# EAGLE library part AD7676 (library analog-devices-3)
16-Bit, +-1 LSB INL, 500 kSPS, Differential ADC Source: http://www.analog.com/static/imported-files/data_sheets/AD7676.pdf
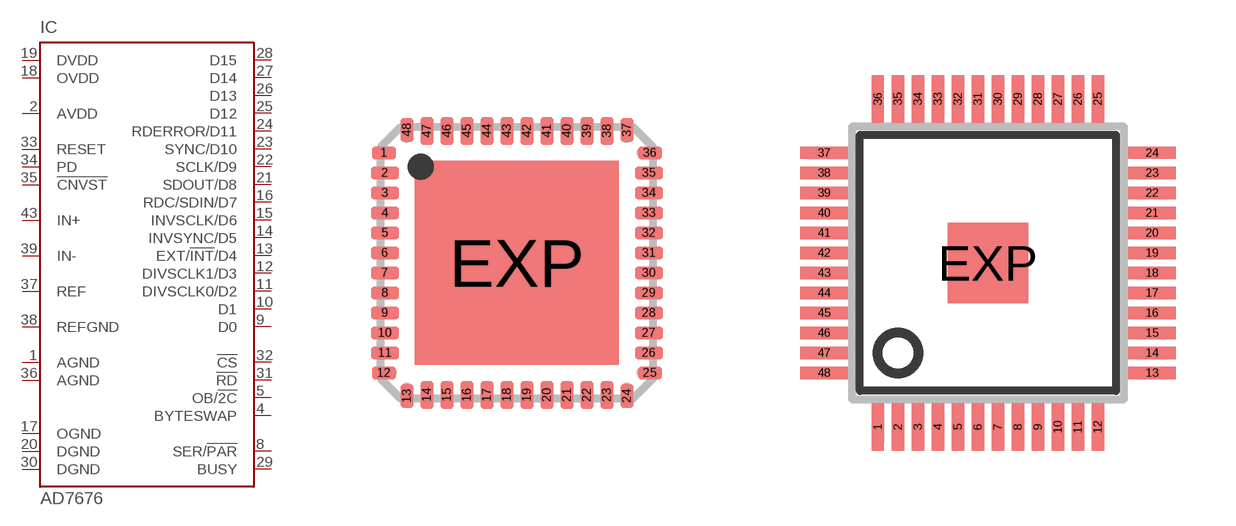
[diagram p93: symbol with the pads of LFCSP48; footprints LFCSP48, QFP-7X7-48]

Designator prefix IC

## AD7676CP  [LFCSP48]
1  AGND  in
2  AVDD  in
4  BYTESWAP  in
5  OB/!2C  in
8  SER/!PAR  in
9  D0  out
10  D1  out
11  DIVSCLK0/D2
12  DIVSCLK1/D3
13  EXT/!INT!/D4
14  INVSYNC/D5
15  INVSCLK/D6
16  RDC/SDIN/D7
17  OGND  in
18  OVDD  in
19  DVDD  in
20  DGND  in
21  SDOUT/D8  out
22  SCLK/D9
23  SYNC/D10  out
24  RDERROR/D11  out
25  D12  out
26  D13  out
27  D14  out
28  D15  out
29  BUSY  in
30  DGND  in
31  !RD  in
32  !CS  in
33  RESET  in
34  PD  in
35  !CNVST  in
36  AGND  in
37  REF  in
38  REFGND  in
39  IN-  in
43  IN+  in

## AD7676ST  [QFP-7X7-48]
Pads as for LFCSP48

## Footprint LFCSP48 (pad centres in mm)
Lead Frame Chip Scale Package LFCSP CP-48 COMPLIANT TO JEDEC STANDARDS MO-220-VKKD-2 Source: http://www.analog.com/UploadedFiles/Data_Sheets/39780344872292AD7651_0.pdf
smd 0.6 x 0.32: 1 -3.325,2.75; 12 -3.325,-2.75; 25 3.325,-2.75; 36 3.325,2.75
smd 0.7 x 0.32: 2 -3.3,2.25; 3 -3.3,1.75; 4 -3.3,1.25; 5 -3.3,0.75; 6 -3.3,0.25; 7 -3.3,-0.25; 8 -3.3,-0.75; 9 -3.3,-1.25; 10 -3.3,-1.75; 11 -3.3,-2.25; 26 3.3,-2.25; 27 3.3,-1.75; 28 3.3,-1.25; 29 3.3,-0.75; 30 3.3,-0.25; 31 3.3,0.25; 32 3.3,0.75; 33 3.3,1.25; 34 3.3,1.75; 35 3.3,2.25
smd 0.32 x 0.6: 13 -2.75,-3.325; 24 2.75,-3.325; 37 2.75,3.325; 48 -2.75,3.325
smd 0.32 x 0.7: 14 -2.25,-3.3; 15 -1.75,-3.3; 16 -1.25,-3.3; 17 -0.75,-3.3; 18 -0.25,-3.3; 19 0.25,-3.3; 20 0.75,-3.3; 21 1.25,-3.3; 22 1.75,-3.3; 23 2.25,-3.3; 38 2.25,3.3; 39 1.75,3.3; 40 1.25,3.3; 41 0.75,3.3; 42 0.25,3.3; 43 -0.25,3.3; 44 -0.75,3.3; 45 -1.25,3.3; 46 -1.75,3.3; 47 -2.25,3.3
smd 5.1 x 5.1: EXP 0,0

## Footprint QFP-7X7-48 (pad centres in mm)
TQFP48 7x7 Thin Plastic Quad Flat Package, Exposed Pad, TQFP/EP Source: www.analog.com/UploadedFiles/Data_Sheets/33830397585263AD9859_0.pdf
smd 0.3 x 1.2: 1 -2.75,-4.1; 2 -2.25,-4.1; 3 -1.75,-4.1; 4 -1.25,-4.1; 5 -0.75,-4.1; 6 -0.25,-4.1; 7 0.25,-4.1; 8 0.75,-4.1; 9 1.25,-4.1; 10 1.75,-4.1; 11 2.25,-4.1; 12 2.75,-4.1; 25 2.75,4.1; 26 2.25,4.1; 27 1.75,4.1; 28 1.25,4.1; 29 0.75,4.1; 30 0.25,4.1; 31 -0.25,4.1; 32 -0.75,4.1; 33 -1.25,4.1; 34 -1.75,4.1; 35 -2.25,4.1; 36 -2.75,4.1
smd 1.2 x 0.3: 13 4.1,-2.75; 14 4.1,-2.25; 15 4.1,-1.75; 16 4.1,-1.25; 17 4.1,-0.75; 18 4.1,-0.25; 19 4.1,0.25; 20 4.1,0.75; 21 4.1,1.25; 22 4.1,1.75; 23 4.1,2.25; 24 4.1,2.75; 37 -4.1,2.75; 38 -4.1,2.25; 39 -4.1,1.75; 40 -4.1,1.25; 41 -4.1,0.75; 42 -4.1,0.25; 43 -4.1,-0.25; 44 -4.1,-0.75; 45 -4.1,-1.25; 46 -4.1,-1.75; 47 -4.1,-2.25; 48 -4.1,-2.75
smd 2 x 2: EXP 0,0